# Altium footprint library final.PcbLib: 69 footprints (part 4 of 5)
Each footprint in its own frame and in the unit in brackets; x right, y up, seen from the top. Pads: shape width x height; smd on the part's side, far side on the other; paste and mask are expansions set on the pad; w line width, h text height; cw(c..) or ccw(c..) is an arc to the next point about the centre after c.
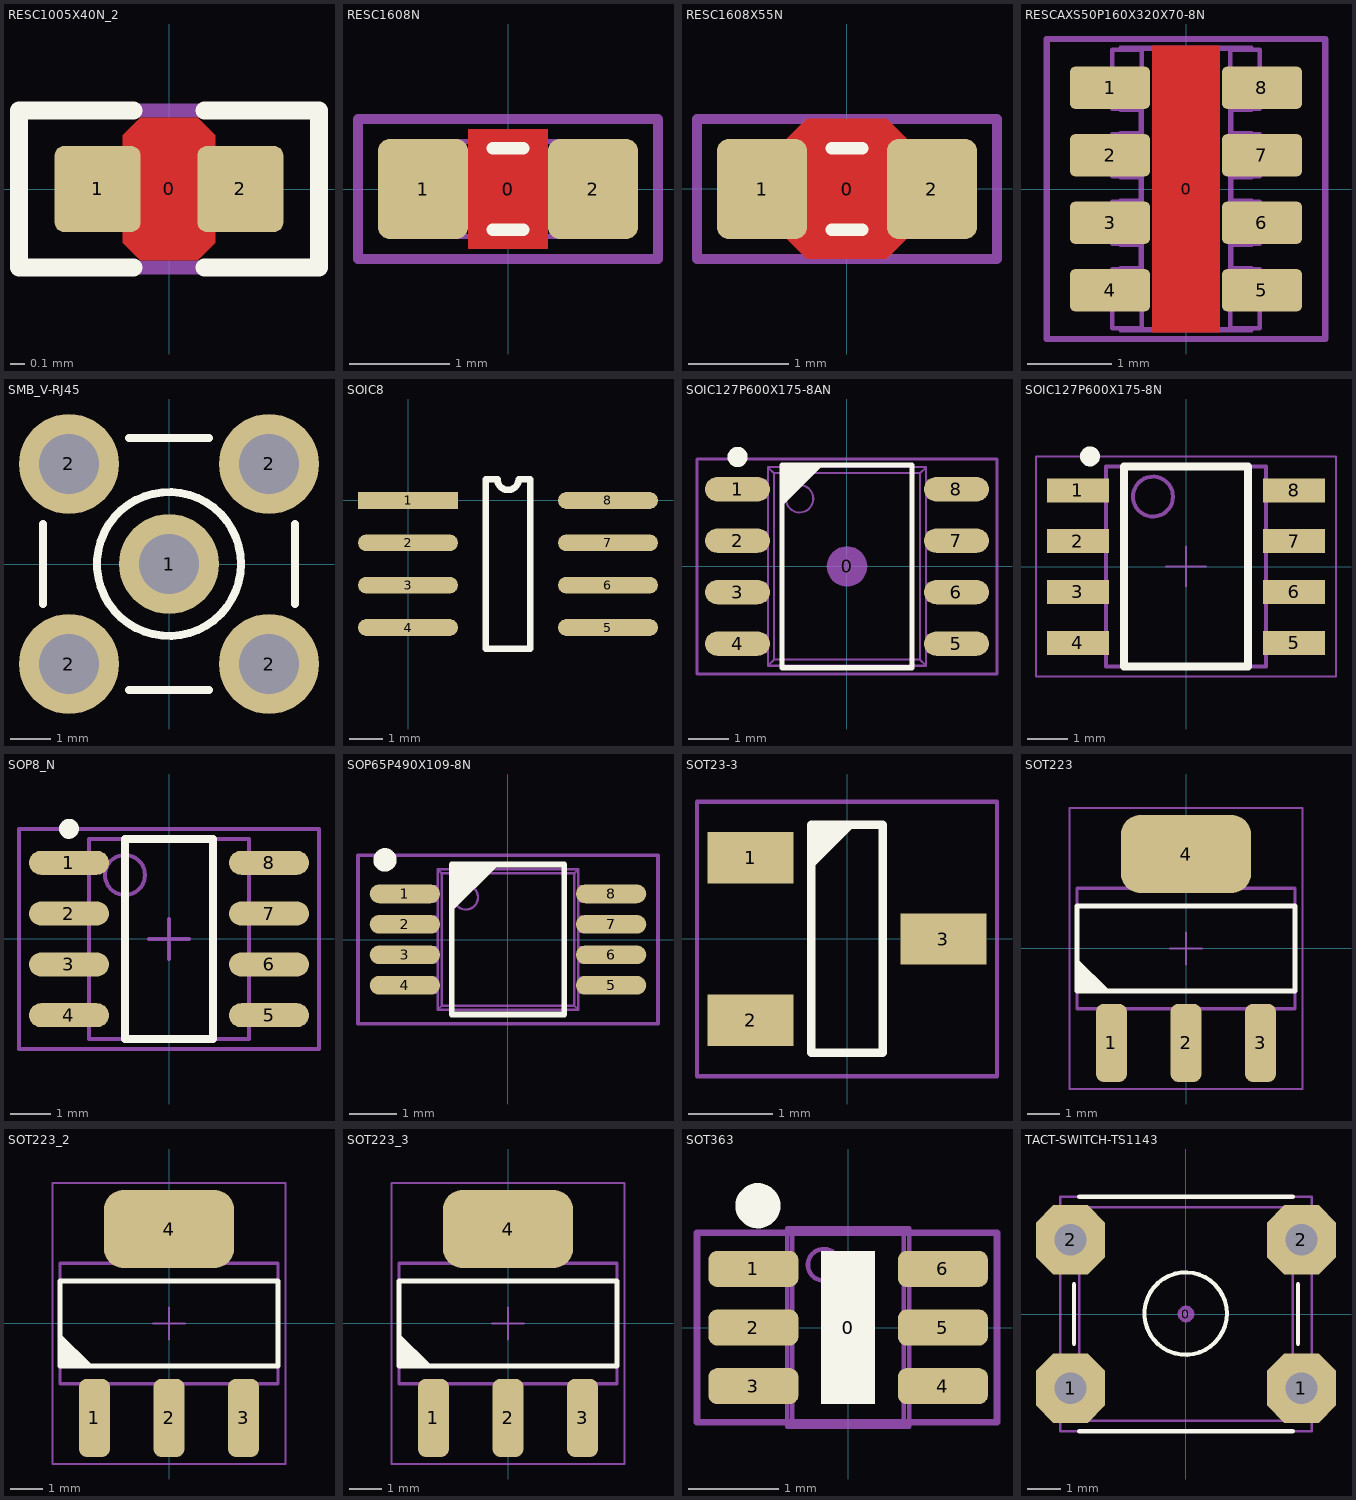
[diagram p3: the footprints below, top view; thin cyan lines are the x and y axes]

## RESC1005X40N_2 [mm]
pads (3):
  round 0.2 on Mech15: 0(0,0)
  rrect20% 0.6x0.6 smd: 1(-0.5,0) 2(0.5,0)
Top Layer:
  pour cut-out: -0.325,0.375 -0.2,0.5 0.2,0.5 0.325,0.375 0.325,-0.375 0.2,-0.5 -0.2,-0.5 -0.325,-0.375
Top Overlay:
  lines w0.127: -0.25,-0.55 -1.05,-0.55 -1.05,0.55 -0.25,0.55 ; 0.25,-0.55 1.05,-0.55 1.05,0.55 0.25,0.55
Mechanical 13:
  lines w0.05: 0.225,-0.274 -0.225,-0.274 0.225,-0.273 ; -0.525,-0.275 -0.525,0.275 -0.225,0.275 -0.225,-0.275 -0.525,-0.275 ; -0.225,0.274 0.225,0.274 -0.225,0.274 ; 0.225,-0.275 0.525,-0.275 0.525,0.275 0.225,0.275 0.225,-0.275
Mechanical 15:
  lines w0.1: -1.05,-0.55 -1.05,0.55 1.05,0.55 1.05,-0.55 -1.05,-0.55
3D body: height 0.4, standoff 0, extent -0.525,-0.275 0.525,0.275

## RESC1608N [mm] "Chip Resistor, Body 1.6x0.8mm, 0603, IPC Medium Density"
height 0.55
pads (3):
  round 0.254 on Mech14: 0(0,0)
  rrect25% 0.9x1 smd: 1(-0.85,0) 2(0.85,0)
Top Layer:
  pour cut-out: -0.4,0.6 0.4,0.6 0.4,-0.6 -0.4,-0.6
Top Overlay:
  lines w0.127: -0.152,-0.406 0.152,-0.406 ; -0.152,0.406 0.152,0.406
Mechanical 13:
  lines w0.05: -0.875,-0.475 -0.875,0.475 -0.475,0.475 -0.475,-0.475 -0.875,-0.475 ; -0.475,-0.474 0.475,-0.474 -0.475,-0.474 ; -0.475,0.474 0.475,0.474 -0.475,0.474 ; 0.475,-0.475 0.875,-0.475 0.875,0.475 0.475,0.475 0.475,-0.475
Mechanical 14:
  lines w0.1: -1.5,-0.7 1.5,-0.7 1.5,0.7 -1.5,0.7 -1.5,-0.7
3D body: height 0.54, standoff -0.01, extent -0.875,-0.475 0.875,0.475

## RESC1608X55N [mm] "Chip Resistor, Body 1.6x0.8mm, EIA 0603, IPC Medium Density"
height 0.55
pads (3):
  round 0.254 on Mech15: 0(0,0)
  rrect25% 0.9x1 smd: 1(-0.85,0) 2(0.85,0)
Top Layer:
  pour cut-out: -0.6,0.5 -0.4,0.7 0.4,0.7 0.6,0.5 0.6,-0.5 0.4,-0.7 -0.4,-0.7 -0.6,-0.5
Top Overlay:
  lines w0.127: -0.152,-0.406 0.152,-0.406 ; -0.152,0.406 0.152,0.406
Mechanical 13:
  lines w0.05: -0.875,-0.475 -0.875,0.475 -0.475,0.475 -0.475,-0.475 -0.875,-0.475 ; -0.475,-0.474 0.475,-0.474 -0.475,-0.474 ; -0.475,0.473 0.475,0.474 -0.475,0.473 ; 0.475,-0.475 0.875,-0.475 0.875,0.475 0.475,0.475 0.475,-0.475
Mechanical 15:
  lines w0.1: -1.5,-0.7 1.5,-0.7 1.5,0.7 -1.5,0.7 -1.5,-0.7
3D body: height 0.54, standoff -0.01, extent -0.875,-0.475 0.875,0.475

## RESCAXS50P160X320X70-8N [mm] "Resistor Pack, Body 1.6x3.2mm, 4x0603, IPC Medium Density"
height 0.7
pads (9):
  round 0.254 on Mech15 mask+0.075: 0(0,0)
  rrect25% 0.95x0.5 smd mask+0.075: 1(-0.9,1.2) 2(-0.9,0.4) 3(-0.9,-0.4) 4(-0.9,-1.2) 5(0.9,-1.2) 6(0.9,-0.4) 7(0.9,0.4) 8(0.9,1.2)
Top Layer:
  pour cut-out: -0.4,1.7 0.4,1.7 0.4,-1.7 -0.4,-1.7
Mechanical 13:
  lines w0.05: -0.775,-1.65 -0.775,-1.675 0.775,-1.675 0.775,-1.65 ; -0.775,-0.95 -0.775,-0.937 -0.538,-0.937 -0.538,-0.662 -0.775,-0.662 -0.775,-0.65 ; -0.775,-0.15 -0.775,-0.137 -0.538,-0.137 -0.538,0.138 -0.775,0.138 -0.775,0.15 ; -0.775,0.65 -0.775,0.663 -0.538,0.663 -0.538,0.938 -0.775,0.938 -0.775,0.95 ; -0.775,1.65 -0.775,1.675 0.775,1.675 0.775,1.65 ; -0.525,-1.65 -0.875,-1.65 -0.875,-0.95 -0.525,-0.95 ; -0.525,-0.65 -0.875,-0.65 -0.875,-0.15 -0.525,-0.15 ; -0.525,0.15 -0.875,0.15 -0.875,0.65 -0.525,0.65 ; -0.525,0.95 -0.875,0.95 -0.875,1.65 -0.525,1.65 ; 0.525,-1.65 0.875,-1.65 0.875,-0.95 0.525,-0.95 ; 0.525,-0.65 0.875,-0.65 0.875,-0.15 0.525,-0.15 ; 0.525,0.15 0.875,0.15 0.875,0.65 0.525,0.65 ; 0.525,0.95 0.875,0.95 0.875,1.65 0.525,1.65 ; 0.775,-0.95 0.775,-0.937 0.537,-0.937 0.537,-0.662 0.775,-0.662 0.775,-0.65 ; 0.775,-0.15 0.775,-0.137 0.537,-0.137 0.537,0.138 0.775,0.138 0.775,0.15 ; 0.775,0.65 0.775,0.663 0.537,0.663 0.537,0.938 0.775,0.938 0.775,0.95 ; -0.525,-1.662 0.525,-1.662 0.525,1.663 -0.525,1.663 -0.525,-1.662
Mechanical 15:
  lines w0.076: -1.651,-1.778 1.651,-1.778 1.651,1.778 -1.651,1.778 -1.651,-1.778
3D body: height 0.7, standoff 0, extent -0.875,-1.675 0.875,1.675

## SMB_V-RJ45 [mm] "Connector; SMB Straight"
pads (5):
  round 2.5 hole 1.5: 1(0,0) 2(-2.5,-2.5) 2(-2.5,2.5) 2(2.5,-2.5) 2(2.5,2.5)
Top Overlay:
  circle w0.2: c0,0 r1.8
  lines w0.2: -3.15,-1 -3.15,1 ; -1,-3.15 1,-3.15 ; -1,3.15 1,3.15 ; 3.15,-1 3.15,1

## SOIC8 [mm]
pads (8):
  rect 3x0.5 smd: 1(0,0)
  oval 3x0.5 smd: 2(0,-1.27) 3(0,-2.54) 4(0,-3.81) 5(6,-3.81) 6(6,-2.54) 7(6,-1.27) 8(6,0)
Top Overlay:
  lines w0.2: 2.335,-4.445 3.665,-4.445 3.665,0.635 3.317,0.635 cw(c3,0.635) 2.682,0.635 2.335,0.635 2.335,-4.445
3D body: height 1.75, standoff 0, extent 0.075,-4.405 6.275,0.595

## SOIC127P600X175-8AN [mm] "SOIC, 8-Leads, Body 4.9x3.9mm, Pitch 1.27mm, IPC Medium Density"
height 1.75
pads (9):
  round 1 on Mech14: 0(0,0)
  oval 1.6x0.6 smd paste-2: 1(-2.7,1.905) 2(-2.7,0.635) 3(-2.7,-0.635) 4(-2.7,-1.905) 5(2.7,-1.905) 6(2.7,-0.635) 7(2.7,0.635) 8(2.7,1.905)
Top Overlay:
  circle w0.25: c-2.7,2.7 r0.125
  region: -1.6,2.5 -0.6,2.5 -1.6,1.5
  lines w0.127: -1.6,-2.5 -1.6,2.5 1.6,2.5 1.6,-2.5 -1.6,-2.5
Top Paste:
  rectangle: 2.12,-2.145 3.28,-1.665
  rectangle: 2.12,-0.875 3.28,-0.395
  rectangle: 2.12,0.395 3.28,0.875
  rectangle: 2.12,1.665 3.28,2.145
  rectangle: -3.28,-2.145 -2.12,-1.665
  rectangle: -3.28,-0.875 -2.12,-0.395
  rectangle: -3.28,0.395 -2.12,0.875
  rectangle: -3.28,1.665 -2.12,2.145
Mechanical 13:
  circle w0.05: c-1.17,1.67 r0.338
  lines w0.05: -2.631,-2.115 -2.631,-1.695 ; -2.631,-0.845 -2.631,-0.425 ; -2.631,0.425 -2.631,0.845 ; -2.631,1.695 -2.631,2.115 ; -2.543,-2.115 -2.543,-1.695 ; -2.543,-0.845 -2.543,-0.425 ; -2.543,0.425 -2.543,0.845 ; -2.543,1.695 -2.543,2.115 ; -2.403,-2.115 -2.403,-1.695 ; -2.403,-0.845 -2.403,-0.425 ; -2.403,0.425 -2.403,0.845 ; -2.403,1.695 -2.403,2.115 ; -2.113,-2.115 -2.113,-1.695 ; -2.113,-0.845 -2.113,-0.425 ; -2.113,0.425 -2.113,0.845 ; -2.113,1.695 -2.113,2.115 ; -1.95,-2.115 -3,-2.115 -3,-1.695 -1.95,-1.695 ; -1.95,-0.845 -3,-0.845 -3,-0.425 -1.95,-0.425 ; -1.95,0.425 -3,0.425 -3,0.845 -1.95,0.845 ; -1.95,1.695 -3,1.695 -3,2.115 -1.95,2.115 ; 1.95,-2.115 3,-2.115 3,-1.695 1.95,-1.695 ; 1.95,-0.845 3,-0.845 3,-0.425 1.95,-0.425 ; 1.95,0.425 3,0.425 3,0.845 1.95,0.845 ; 1.95,1.695 3,1.695 3,2.115 1.95,2.115 ; 2.113,-2.115 2.113,-1.695 ; 2.113,-0.845 2.113,-0.425 ; 2.113,0.425 2.113,0.845 ; 2.113,1.695 2.113,2.115 ; 2.403,-2.115 2.403,-1.695 ; 2.403,-0.845 2.403,-0.425 ; 2.403,0.425 2.403,0.845 ; 2.403,1.695 2.403,2.115 ; 2.543,-2.115 2.543,-1.695 ; 2.543,-0.845 2.543,-0.425 ; 2.543,0.425 2.543,0.845 ; 2.543,1.695 2.543,2.115 ; 2.631,-2.115 2.631,-1.695 ; 2.631,-0.845 2.631,-0.425 ; 2.631,0.425 2.631,0.845 ; 2.631,1.695 2.631,2.115 ; -1.95,-2.45 1.95,-2.45 ; -1.95,-2.45 -1.95,2.45 ; -1.95,-2.45 -1.801,-2.301 ; -1.95,2.45 -1.801,2.301 ; -1.95,2.45 1.95,2.45 ; -1.801,-2.301 1.801,-2.301 ; -1.801,-2.301 -1.801,2.301 ; -1.801,2.301 1.801,2.301 ; 1.801,-2.301 1.95,-2.45 ; 1.801,-2.301 1.801,2.301 ; 1.801,2.301 1.95,2.45 ; 1.95,-2.45 1.95,2.45
Mechanical 14:
  lines w0.076: -3.7,-2.65 -3.7,2.65 3.7,2.65 3.7,-2.65 -3.7,-2.65
3D body: height 1.75, standoff 0, extent -3,-2.45 3,2.45

## SOIC127P600X175-8N [mm] "SOIC 8, Pitch 1.27mm - Body 4x5mm, IPC Medium Density"
height 1.75
pads (8):
  rect 1.55x0.6 smd: 1(-2.7,1.905) 2(-2.7,0.635) 3(-2.7,-0.635) 4(-2.7,-1.905) 5(2.7,-1.905) 6(2.7,-0.635) 7(2.7,0.635) 8(2.7,1.905)
Top Overlay:
  circle w0.25: c-2.4,2.755 r0.125
  lines w0.2: -1.55,-2.5 -1.55,2.5 1.55,2.5 1.55,-2.5 -1.55,-2.5
Mechanical 14:
  circle w0.1: c-0.825,1.75 r0.5
  lines w0.1: -2,-2.5 -2,2.5 2,2.5 2,-2.5 -2,-2.5
Mechanical 15:
  lines w0.05: -0.5,0 0.5,0 ; 0,-0.5 0,0.5 ; -3.75,-2.75 -3.75,2.75 3.75,2.75 3.75,-2.75 -3.75,-2.75
3D body: height 1.75, standoff 0, extent -3.1,-2.5 3.1,2.5

## SOP8_N [mm] "SOIC, 8-Leads, Body 4.9x3.9mm, Pitch 1.27mm, IPC Medium Density"
height 1.75
pads (8):
  oval 2x0.6 smd: 1(-2.5,1.905) 2(-2.5,0.635) 3(-2.5,-0.635) 4(-2.5,-1.905) 5(2.5,-1.905) 6(2.5,-0.635) 7(2.5,0.635) 8(2.5,1.905)
Top Overlay:
  circle w0.25: c-2.5,2.755 r0.125
  lines w0.2: -1.1,-2.5 -1.1,2.5 1.1,2.5 1.1,-2.5 -1.1,-2.5
Mechanical 13:
  circle w0.1: c-1.1,1.6 r0.5
  lines w0.1: -2,-2.5 -2,2.5 2,2.5 2,-2.5 -2,-2.5
Mechanical 15:
  lines w0.1: -0.5,0 0.5,0 ; 0,-0.5 0,0.5 ; -3.75,-2.75 -3.75,2.75 3.75,2.75 3.75,-2.75 -3.75,-2.75
3D body: height 1.75, standoff 0, extent -2,-2.5 2,2.5

## SOP65P490X109-8N [mm] "SOP, 0.65mm pitch, 8 pin, Body 3.0x3.0x1.09mm LWH, IPC Medium Density"
height 1.09
pads (8):
  oval 1.5x0.4 smd paste-1 mask+0.05: 1(-2.2,0.975) 2(-2.2,0.325) 3(-2.2,-0.325) 4(-2.2,-0.975) 5(2.2,-0.975) 6(2.2,-0.325) 7(2.2,0.325) 8(2.2,0.975)
Top Overlay:
  circle w0.25: c-2.625,1.7 r0.125
  region: -1.2,1.6 -0.2,1.6 -1.2,0.6
  lines w0.127: -1.2,-1.6 1.2,-1.6 1.2,1.6 -1.2,1.6 -1.2,-1.6
Top Paste:
  rectangle: -2.8,-1.115 -1.6,-0.835
  rectangle: -2.8,-0.465 -1.6,-0.185
  rectangle: -2.8,0.185 -1.6,0.465
  rectangle: 1.6,0.835 2.8,1.115
  rectangle: 1.6,0.185 2.8,0.465
  rectangle: 1.6,-0.465 2.8,-0.185
  rectangle: 1.6,-1.115 2.8,-0.835
  rectangle: -2.8,0.835 -1.6,1.115
Mechanical 13:
  lines w0.076: -3.2,-1.8 3.2,-1.8 3.2,1.8 -3.2,1.8 -3.2,-1.8
Mechanical 14:
  circle w0.05: c-0.9,0.9 r0.26
  lines w0.05: -2.162,-1.135 -2.162,-0.815 ; -2.162,-0.485 -2.162,-0.165 ; -2.162,0.165 -2.162,0.485 ; -2.162,0.815 -2.162,1.135 ; -2.074,-1.135 -2.074,-0.815 ; -2.074,-0.485 -2.074,-0.165 ; -2.074,0.165 -2.074,0.485 ; -2.074,0.815 -2.074,1.135 ; -2.019,-1.135 -2.019,-0.815 ; -2.019,-0.485 -2.019,-0.165 ; -2.019,0.165 -2.019,0.485 ; -2.019,0.815 -2.019,1.135 ; -1.749,-1.135 -1.749,-0.815 ; -1.749,-0.485 -1.749,-0.165 ; -1.749,0.165 -1.749,0.485 ; -1.749,0.815 -1.749,1.135 ; -1.5,-1.135 -2.45,-1.135 -2.45,-0.815 -1.5,-0.815 ; -1.5,-0.485 -2.45,-0.485 -2.45,-0.165 -1.5,-0.165 ; -1.5,0.165 -2.45,0.165 -2.45,0.485 -1.5,0.485 ; -1.5,0.815 -2.45,0.815 -2.45,1.135 -1.5,1.135 ; 1.5,-1.135 2.45,-1.135 2.45,-0.815 1.5,-0.815 ; 1.5,-0.485 2.45,-0.485 2.45,-0.165 1.5,-0.165 ; 1.5,0.165 2.45,0.165 2.45,0.485 1.5,0.485 ; 1.5,0.815 2.45,0.815 2.45,1.135 1.5,1.135 ; 1.749,-1.135 1.749,-0.815 ; 1.749,-0.485 1.749,-0.165 ; 1.749,0.165 1.749,0.485 ; 1.749,0.815 1.749,1.135 ; 2.019,-1.135 2.019,-0.815 ; 2.019,-0.485 2.019,-0.165 ; 2.019,0.165 2.019,0.485 ; 2.019,0.815 2.019,1.135 ; 2.074,-1.135 2.074,-0.815 ; 2.074,-0.485 2.074,-0.165 ; 2.074,0.165 2.074,0.485 ; 2.074,0.815 2.074,1.135 ; 2.162,-1.135 2.162,-0.815 ; 2.162,-0.485 2.162,-0.165 ; 2.162,0.165 2.162,0.485 ; 2.162,0.815 2.162,1.135 ; -1.5,-1.5 -1.413,-1.413 ; -1.5,-1.5 -1.5,1.5 ; -1.5,-1.5 1.5,-1.5 ; -1.5,1.5 1.5,1.5 ; -1.5,1.5 -1.413,1.413 ; -1.413,-1.413 -1.413,1.413 ; -1.413,-1.413 1.413,-1.413 ; -1.413,1.413 1.413,1.413 ; 1.413,-1.413 1.413,1.413 ; 1.413,-1.413 1.5,-1.5 ; 1.413,1.413 1.5,1.5 ; 1.5,-1.5 1.5,1.5
3D body: height 1.1, standoff 0, extent -2.45,-1.5 2.45,1.5

## SOT23-3 [mil] "SOT23, 3 pin"
height 39.5
pads (3):
  rect 40x24 smd mask+1.97: 1(-45,38) 2(-45,-38) 3(45,0)
Top Overlay:
  region: -17.93,53.37 4.15,53.37 -17.93,31.28
  lines w4: -16.73,-53.03 16.73,-53.03 16.73,53.27 -16.73,53.27 -16.73,-53.03
Mechanical 14:
  lines w2: -70,-64 70,-64 70,64 -70,64 -70,-64
3D body: height 50.68, standoff -0.5, extent -55.11,-57.09 55.12,57.08

## SOT223 [mm] "SOT223, 4-Leads, Body 6.7x7.3mm (max), Pitch 2.29mm, IPC Medium Density"
height 1.8
pads (4):
  rrect50% 0.95x2.4 smd mask+0.05: 1(-2.29,-2.9) 2(0,-2.9) 3(2.29,-2.9)
  rrect50% 4x2.4 smd mask+0.05: 4(0,2.9)
Top Overlay:
  region: -3.35,-1.3 -3.35,-0.3 -2.35,-1.3
  lines w0.152: -3.35,-1.3 -3.35,1.3 3.35,1.3 3.35,-1.3 -3.35,-1.3
Mechanical 13:
  lines w0.1: -3.35,-1.85 -3.35,1.85 3.35,1.85 3.35,-1.85 -3.35,-1.85
Mechanical 15:
  lines w0.051: -0.5,0 0.5,0 ; 0,-0.5 0,0.5 ; -3.581,-4.318 -3.581,4.318 3.581,4.318 3.581,-4.318 -3.581,-4.318
3D body: height 1.8, standoff 0, extent -3.35,-3.65 3.35,3.65

## SOT223_2 [mm]
pads (4):
  rrect50% 0.95x2.4 smd: 1(-2.29,-2.9) 2(0,-2.9) 3(2.29,-2.9)
  rrect50% 4x2.4 smd: 4(0,2.9)
Top Overlay:
  region: -3.35,-1.3 -3.35,-0.3 -2.35,-1.3
  lines w0.152: -3.35,-1.3 3.35,-1.3 3.35,1.3 -3.35,1.3 -3.35,-1.3
Mechanical 13:
  lines w0.1: -3.35,-1.85 3.35,-1.85 3.35,1.85 -3.35,1.85 -3.35,-1.85
Mechanical 15:
  lines w0.051: -0.5,0 0.5,0 ; 0,-0.5 0,0.5 ; -3.581,-4.318 3.581,-4.318 3.581,4.318 -3.581,4.318 -3.581,-4.318
3D body: height 1.8, standoff 0, extent -3.35,-3.65 3.35,3.65

## SOT223_3 [mm]
pads (4):
  rrect50% 0.95x2.4 smd: 1(-2.29,-2.9) 2(0,-2.9) 3(2.29,-2.9)
  rrect50% 4x2.4 smd: 4(0,2.9)
Top Overlay:
  region: -3.35,-1.3 -3.35,-0.3 -2.35,-1.3
  lines w0.152: -3.35,-1.3 -3.35,1.3 3.35,1.3 3.35,-1.3 -3.35,-1.3
Mechanical 13:
  lines w0.1: -3.35,-1.85 -3.35,1.85 3.35,1.85 3.35,-1.85 -3.35,-1.85
Mechanical 15:
  lines w0.051: -0.5,0 0.5,0 ; 0,-0.5 0,0.5 ; -3.581,-4.318 -3.581,4.318 3.581,4.318 3.581,-4.318 -3.581,-4.318
3D body: height 1.8, standoff 0, extent -3.35,-3.65 3.35,3.65

## SOT363 [mm] "Small outline 2.1mm L x 1.25mm W x 1mm H"
height 1
pads (7):
  round 0.5 on Mech14: 0(0,0)
  rrect50% 1x0.4 smd: 1(-1.05,0.65) 2(-1.05,0) 3(-1.05,-0.65) 4(1.05,-0.65) 5(1.05,0) 6(1.05,0.65)
Top Overlay:
  circle w0.3: c-1,1.35 r0.1
  rectangle: -0.3,-0.85 0.3,0.85
Top Solder:
  rectangle: -1.397,-0.762 -0.635,0.762
  region: 1.397,0.762 0.635,0.762 0.635,-0.762 1.397,-0.762
Mechanical 13:
  circle w0.05: c-0.27,0.695 r0.175
  lines w0.05: -1.028,-0.8 -1.028,-0.5 ; -1.028,-0.15 -1.028,0.15 ; -1.028,0.5 -1.028,0.8 ; -0.937,-0.8 -0.937,-0.5 ; -0.937,-0.15 -0.937,0.15 ; -0.937,0.5 -0.937,0.8 ; -0.925,-0.8 -0.925,-0.5 ; -0.925,-0.15 -0.925,0.15 ; -0.925,0.5 -0.925,0.8 ; 0.925,-0.8 0.925,-0.5 ; 0.925,-0.15 0.925,0.15 ; 0.925,0.5 0.925,0.8 ; 0.937,-0.8 0.937,-0.5 ; 0.937,-0.15 0.937,0.15 ; 0.937,0.5 0.937,0.8 ; 1.028,-0.8 1.028,-0.5 ; 1.028,-0.15 1.028,0.15 ; 1.028,0.5 1.028,0.8 ; -0.675,-1.1 0.675,-1.1 ; -0.675,-1.1 -0.675,1.1 ; -0.675,-1.1 -0.619,-1.044 ; -0.675,1.1 0.675,1.1 ; -0.675,1.1 -0.619,1.044 ; -0.619,-1.044 0.619,-1.044 ; -0.619,-1.044 -0.619,1.044 ; -0.619,1.044 0.619,1.044 ; 0.619,-1.044 0.675,-1.1 ; 0.619,-1.044 0.619,1.044 ; 0.619,1.044 0.675,1.1 ; 0.675,-1.1 0.675,1.1 ; -1.2,-0.8 -1.2,-0.5 -0.654,-0.5 -0.654,-0.8 -1.2,-0.8 ; -1.2,-0.15 -1.2,0.15 -0.654,0.15 -0.654,-0.15 -1.2,-0.15 ; -1.2,0.5 -1.2,0.8 -0.654,0.8 -0.654,0.5 -1.2,0.5 ; 0.654,-0.8 1.2,-0.8 1.2,-0.5 0.654,-0.5 0.654,-0.8 ; 0.654,-0.15 1.2,-0.15 1.2,0.15 0.654,0.15 0.654,-0.15 ; 0.654,0.5 1.2,0.5 1.2,0.8 0.654,0.8 0.654,0.5
Mechanical 14:
  lines w0.076: -1.675,-1.05 -1.675,1.05 1.65,1.05 1.65,-1.05 -1.675,-1.05
3D body: height 1.1, standoff 0, extent -1.2,-1.1 1.2,1.1

## TACT-SWITCH-TS1143 [mm] "Bondtact sealed TH tact switch"
height 4.318
pads (5):
  round 0.508 on Mech14: 0(0,0)
  oct 2.1x2.1 hole 0.965: 1(-3.5,-2.25) 1(3.5,-2.25) 2(-3.5,2.25) 2(3.5,2.25)
Top Overlay:
  circle w0.127: c-0.011,0.014 r1.25
  lines w0.127: -3.4,-0.9 -3.4,0.9 ; -3.239,-3.556 3.24,-3.556 ; -3.236,3.556 3.236,3.556 ; 3.4,-0.9 3.4,0.9
Mechanical 13:
  circle w0.076: c-0.011,0.014 r1.25
  lines w0.076: -3.232,-3.237 -3.232,3.24 3.24,3.24 3.24,-3.237 -3.232,-3.237
Mechanical 14:
  lines w0.076: -3.81,-3.556 3.81,-3.556 3.81,3.556 -3.81,3.556 -3.81,-3.556
3D body: height 4.3, standoff -3.5, extent -4.134,-3.25 4.134,3.25